# Altium integrated library VNH5050A-E.IntLib: 1 symbol
Pins are listed as number, name and electrical type; pins without a type are passive.

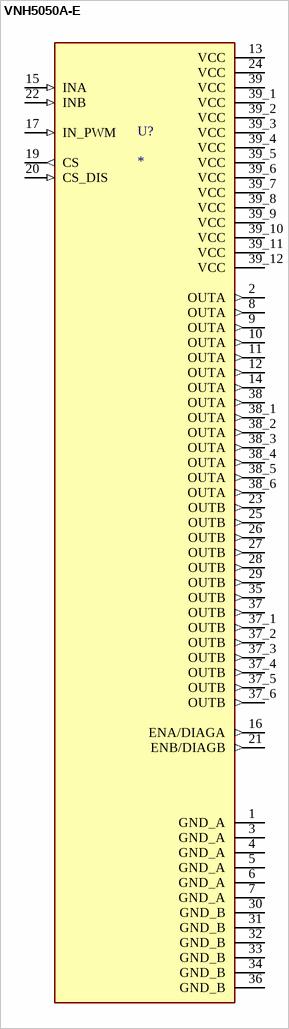
[diagram p0: symbol VNH5050A-E]

## VNH5050A-E
designator U?
- Motor Driver Power MOSFET Parallel, PWM PowerSSO-36 TP; MF: STMicroelectronics; MP: VNH5050A-E; SnapEDA_Link: https://www.snapeda.com/parts/VNH5050A-E/STMicroelectronics/view-part/?ref=snap; Package: BFSOP-36 STMicroelectronics; Value: *; Check_prices: https://www.snapeda.com/parts/VNH5050A-E/STMicroelectronics/view-part/?ref=eda
footprint SOP50P1030X247-39N
pins: 1 GND_A (power), 2 OUTA (out), 3 GND_A (power), 4 GND_A (power), 5 GND_A (power), 6 GND_A (power), 7 GND_A (power), 8 OUTA (out), 9 OUTA (out), 10 OUTA (out), 11 OUTA (out), 12 OUTA (out), 13 VCC (power), 14 OUTA (out), 15 INA (in), 16 ENA/DIAGA (out), 17 IN_PWM (in), 19 CS (out), 20 CS_DIS (in), 21 ENB/DIAGB (out), 22 INB (in), 23 OUTB (out), 24 VCC (power), 25 OUTB (out), 26 OUTB (out), 27 OUTB (out), 28 OUTB (out), 29 OUTB (out), 30 GND_B (power), 31 GND_B (power), 32 GND_B (power), 33 GND_B (power), 34 GND_B (power), 35 OUTB (out), 36 GND_B (power), 37 OUTB (out), 37_1 OUTB (out), 37_2 OUTB (out), 37_3 OUTB (out), 37_4 OUTB (out), 37_5 OUTB (out), 37_6 OUTB (out), 38 OUTA (out), 38_1 OUTA (out), 38_2 OUTA (out), 38_3 OUTA (out), 38_4 OUTA (out), 38_5 OUTA (out), 38_6 OUTA (out), 39 VCC (power), 39_1 VCC (power), 39_2 VCC (power), 39_3 VCC (power), 39_4 VCC (power), 39_5 VCC (power), 39_6 VCC (power), 39_7 VCC (power), 39_8 VCC (power), 39_9 VCC (power), 39_10 VCC (power), 39_11 VCC (power), 39_12 VCC (power)